# EAGLE library part TPD2E1B06 (library borkedlabs-diodes)
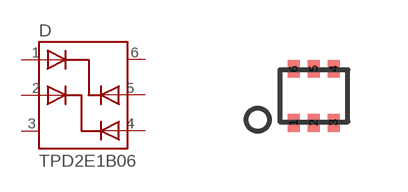
[diagram p2: symbol with the pads of SOT6-DRL; footprint SOT6-DRL]

Designator prefix D

## TPD2E1B06 (MANU: TI; MPN: TPD2E1B06DRLR; PACKAGE: SOT6-DRL)  [SOT6-DRL]
1  IOA1  pas
2  IOB1  pas
3  NC  nc
4  IOB2  pas
5  IOA2  pas
6  NC  nc

## Footprint SOT6-DRL (pad centres in mm)
smd 0.3 x 0.45: 1 -0.5,-0.675; 2 0,-0.675; 3 0.5,-0.675; 4 0.5,0.675; 5 0,0.675; 6 -0.5,0.675